# EAGLE library part ATSAMD21E17A-AUT (library ATSAMD21E17A-AUT)
Cortex-M0+, 128KB FLASH, 16KB SRAM, USB, DMA - 32TQFP IND TEMP, GREEN, 1.6-3.6V, 48MHz/ TQFP (A) Check availability <https://pricing.snapeda.com/parts/ATSAMD21E17A-AU/Microchip/view-part?ref=eda>
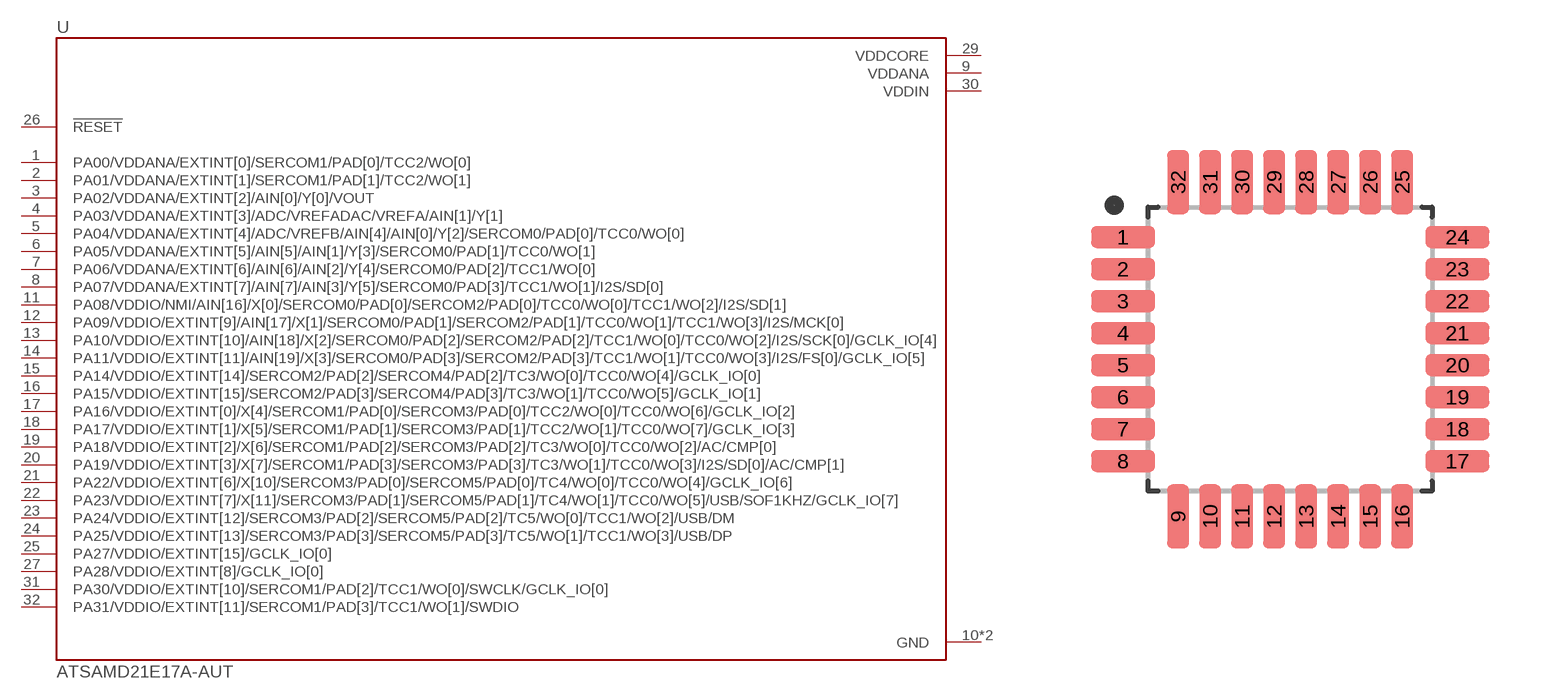
[diagram p0: symbol with the pads of QFP80P900X900X120-32N; footprint QFP80P900X900X120-32N]

Designator prefix U

## ATSAMD21E17A-AUT (Availability: In Stock; Description: ARM® Cortex®-M0+ SAM D21E, Functional Safety (FuSa) Microcontroller IC 32-Bit 48MHz 128KB (128K x 8) FLASH 32-TQFP (7x7); MF: Microchip; MP: ATSAMD21E17A-AU; Package: TQFP-32 Microchip; Price: None; Purchase-URL: https://pricing.snapeda.com/search/part/ATSAMD21E17A-AU/?ref=eda)  [QFP80P900X900X120-32N]
1  PA00/VDDANA/EXTINT[0]/SERCOM1/PAD[0]/TCC2/WO[0]
2  PA01/VDDANA/EXTINT[1]/SERCOM1/PAD[1]/TCC2/WO[1]
3  PA02/VDDANA/EXTINT[2]/AIN[0]/Y[0]/VOUT
4  PA03/VDDANA/EXTINT[3]/ADC/VREFADAC/VREFA/AIN[1]/Y[1]
5  PA04/VDDANA/EXTINT[4]/ADC/VREFB/AIN[4]/AIN[0]/Y[2]/SERCOM0/PAD[0]/TCC0/WO[0]
6  PA05/VDDANA/EXTINT[5]/AIN[5]/AIN[1]/Y[3]/SERCOM0/PAD[1]/TCC0/WO[1]
7  PA06/VDDANA/EXTINT[6]/AIN[6]/AIN[2]/Y[4]/SERCOM0/PAD[2]/TCC1/WO[0]
8  PA07/VDDANA/EXTINT[7]/AIN[7]/AIN[3]/Y[5]/SERCOM0/PAD[3]/TCC1/WO[1]/I2S/SD[0]
9  VDDANA  pwr
10  GND  pwr
11  PA08/VDDIO/NMI/AIN[16]/X[0]/SERCOM0/PAD[0]/SERCOM2/PAD[0]/TCC0/WO[0]/TCC1/WO[2]/I2S/SD[1]
12  PA09/VDDIO/EXTINT[9]/AIN[17]/X[1]/SERCOM0/PAD[1]/SERCOM2/PAD[1]/TCC0/WO[1]/TCC1/WO[3]/I2S/MCK[0]
13  PA10/VDDIO/EXTINT[10]/AIN[18]/X[2]/SERCOM0/PAD[2]/SERCOM2/PAD[2]/TCC1/WO[0]/TCC0/WO[2]/I2S/SCK[0]/GCLK_IO[4]
14  PA11/VDDIO/EXTINT[11]/AIN[19]/X[3]/SERCOM0/PAD[3]/SERCOM2/PAD[3]/TCC1/WO[1]/TCC0/WO[3]/I2S/FS[0]/GCLK_IO[5]
15  PA14/VDDIO/EXTINT[14]/SERCOM2/PAD[2]/SERCOM4/PAD[2]/TC3/WO[0]/TCC0/WO[4]/GCLK_IO[0]
16  PA15/VDDIO/EXTINT[15]/SERCOM2/PAD[3]/SERCOM4/PAD[3]/TC3/WO[1]/TCC0/WO[5]/GCLK_IO[1]
17  PA16/VDDIO/EXTINT[0]/X[4]/SERCOM1/PAD[0]/SERCOM3/PAD[0]/TCC2/WO[0]/TCC0/WO[6]/GCLK_IO[2]
18  PA17/VDDIO/EXTINT[1]/X[5]/SERCOM1/PAD[1]/SERCOM3/PAD[1]/TCC2/WO[1]/TCC0/WO[7]/GCLK_IO[3]
19  PA18/VDDIO/EXTINT[2]/X[6]/SERCOM1/PAD[2]/SERCOM3/PAD[2]/TC3/WO[0]/TCC0/WO[2]/AC/CMP[0]
20  PA19/VDDIO/EXTINT[3]/X[7]/SERCOM1/PAD[3]/SERCOM3/PAD[3]/TC3/WO[1]/TCC0/WO[3]/I2S/SD[0]/AC/CMP[1]
21  PA22/VDDIO/EXTINT[6]/X[10]/SERCOM3/PAD[0]/SERCOM5/PAD[0]/TC4/WO[0]/TCC0/WO[4]/GCLK_IO[6]
22  PA23/VDDIO/EXTINT[7]/X[11]/SERCOM3/PAD[1]/SERCOM5/PAD[1]/TC4/WO[1]/TCC0/WO[5]/USB/SOF1KHZ/GCLK_IO[7]
23  PA24/VDDIO/EXTINT[12]/SERCOM3/PAD[2]/SERCOM5/PAD[2]/TC5/WO[0]/TCC1/WO[2]/USB/DM
24  PA25/VDDIO/EXTINT[13]/SERCOM3/PAD[3]/SERCOM5/PAD[3]/TC5/WO[1]/TCC1/WO[3]/USB/DP
25  PA27/VDDIO/EXTINT[15]/GCLK_IO[0]
26  !RESET  in
27  PA28/VDDIO/EXTINT[8]/GCLK_IO[0]
28  GND  pwr
29  VDDCORE  pwr
30  VDDIN  pwr
31  PA30/VDDIO/EXTINT[10]/SERCOM1/PAD[2]/TCC1/WO[0]/SWCLK/GCLK_IO[0]
32  PA31/VDDIO/EXTINT[11]/SERCOM1/PAD[3]/TCC1/WO[1]/SWDIO

## Footprint QFP80P900X900X120-32N (pad centres in mm)
smd 1.6 x 0.55: 1 -4.18,2.8; 2 -4.18,2; 3 -4.18,1.2; 4 -4.18,0.4; 5 -4.18,-0.4; 6 -4.18,-1.2; 7 -4.18,-2; 8 -4.18,-2.8; 17 4.18,-2.8; 18 4.18,-2; 19 4.18,-1.2; 20 4.18,-0.4; 21 4.18,0.4; 22 4.18,1.2; 23 4.18,2; 24 4.18,2.8
smd 0.55 x 1.6: 9 -2.8,-4.18; 10 -2,-4.18; 11 -1.2,-4.18; 12 -0.4,-4.18; 13 0.4,-4.18; 14 1.2,-4.18; 15 2,-4.18; 16 2.8,-4.18; 25 2.8,4.18; 26 2,4.18; 27 1.2,4.18; 28 0.4,4.18; 29 -0.4,4.18; 30 -1.2,4.18; 31 -2,4.18; 32 -2.8,4.18